# EAGLE library part POWER-MODULE-TI-6A (library MAAV)
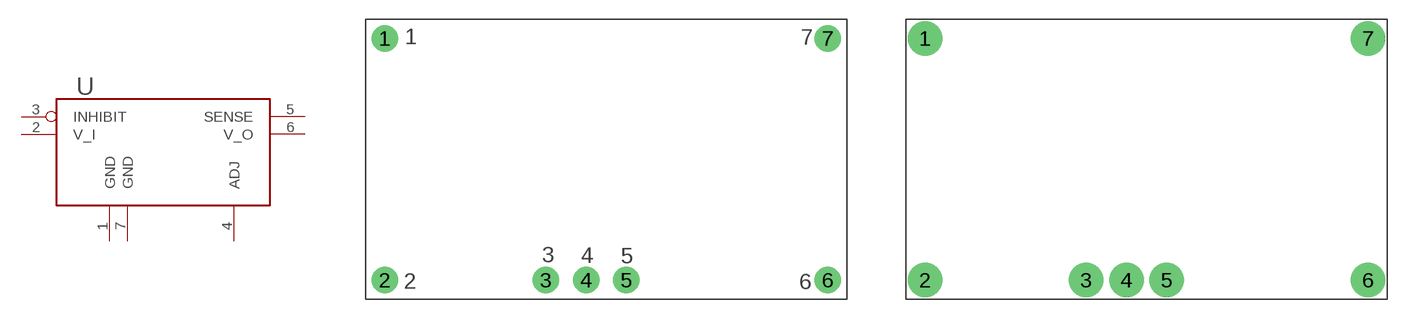
[diagram p15: symbol with the pads of POWER-MOD-TI-6A-DIRECT-SOLDER; footprints POWER-MOD-TI-6A-DIRECT-SOLDER, POWER-MOD-TI-6A-SOLDERLESS-TERMINAL]

Designator prefix -

## POWER-MODULE-TI-6A_DIRECT-SOLDER (DIGIKEY#: 296-20515-ND)  [POWER-MOD-TI-6A-DIRECT-SOLDER]
1  GND  pwr
2  V_I  in
3  INHIBIT  pas
4  ADJ  pas
5  SENSE  in
6  V_O  out
7  GND  pwr

## POWER-MODULE-TI-6A_SOLDERLESS_TERMINAL (ANOTHER_DIGIKEY#: ED90452-ND; DIGIKEY#: 296-20515-ND)  [POWER-MOD-TI-6A-SOLDERLESS-TERMINAL]
Pads as for POWER-MOD-TI-6A-DIRECT-SOLDER

## Footprint POWER-MOD-TI-6A-DIRECT-SOLDER (pad centres in mm)
drill 1.397: 1 -15.875,9.525; 2 -15.875,-9.525; 3 -3.175,-9.525; 4 0,-9.525; 5 3.175,-9.525; 6 19.05,-9.525; 7 19.05,9.525

## Footprint POWER-MOD-TI-6A-SOLDERLESS-TERMINAL (pad centres in mm)
drill 1.803: 1 -15.875,9.525; 2 -15.875,-9.525; 3 -3.175,-9.525; 4 0,-9.525; 5 3.175,-9.525; 6 19.05,-9.525; 7 19.05,9.525